# EAGLE library part SRV05-4 (library Circuit Protection > ESD Suppressors \ TVS Diodes)
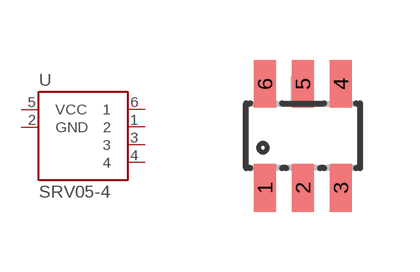
[diagram p0: symbol with the pads of SOT23-6; footprint SOT23-6]

Designator prefix U

## SRV05-4  [SOT23-6]
1  2
2  GND
3  3
4  4
5  VCC
6  1

## Footprint SOT23-6 (pad centres in mm)
smd 0.55 x 1.2: 1 -0.95,-1.3; 2 0,-1.3; 3 0.95,-1.3; 4 0.95,1.3; 5 0,1.3; 6 -0.95,1.3